# Altium schematic symbol library GR3115.SchLib: 1 symbol
Pins are listed as number, name and electrical type; pins without a type are passive.

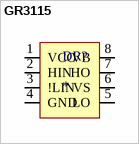
[diagram p0: symbol GR3115]

## GR3115
designator DR?
pins: 1 VCC, 2 HIN, 3 !LIN, 4 GND, 5 LO, 6 VS, 7 HO, 8 VB